# Altium schematic symbol library LTST-C150KGKT.Schlib: 1 symbol
Pins are listed as number, name and electrical type; pins without a type are passive.

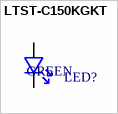
[diagram p0: symbol LTST-C150KGKT]

## LTST-C150KGKT
designator LED?, comment GREEN
LED SM 1206 GREEN 2V2 FWD VOLTAGE
pins: 1, 2